# EAGLE library part DS1882Z-050+ (library DS1882Z-050_)
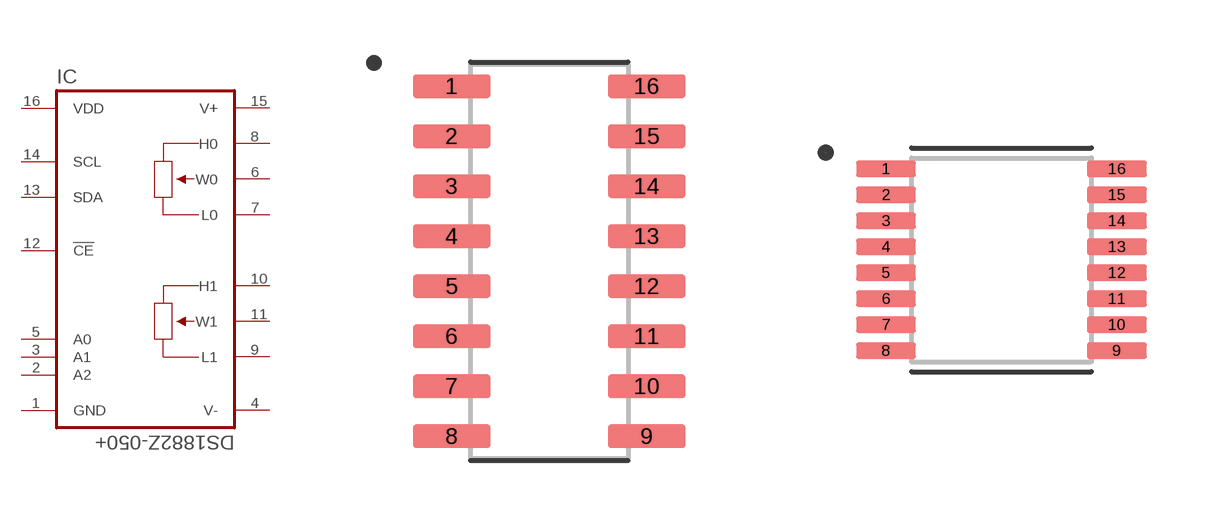
[diagram p0: symbol with the pads of SOIC127P600X175-16N; footprints SOIC127P600X175-16N, SOP65P640X110-16N]

Designator prefix IC

## DS1882Z-050+Z (AVAILABILITY: Unavailable; DESCRIPTION: Integrated circuit: digital potentiometer; 45kΩ; I2C; SO16; SMD; MF: Maxim Integrated; MP: DS1882Z-050+; PACKAGE: SOIC-16 Maxim; PRICE: None)  [SOIC127P600X175-16N]
1  GND  pwr
2  A2
3  A1
4  V-  pwr
5  A0
6  W0
7  L0
8  H0
9  L1
10  H1
11  W1
12  !CE
13  SDA
14  SCL
15  V+  pwr
16  VDD  pwr

## DS1882Z-050+E  [SOP65P640X110-16N]
Pads as for SOIC127P600X175-16N

## Footprint SOIC127P600X175-16N (pad centres in mm)
smd 1.97 x 0.59: 1 -2.475,4.445; 2 -2.475,3.175; 3 -2.475,1.905; 4 -2.475,0.635; 5 -2.475,-0.635; 6 -2.475,-1.905; 7 -2.475,-3.175; 8 -2.475,-4.445; 9 2.475,-4.445; 10 2.475,-3.175; 11 2.475,-1.905; 12 2.475,-0.635; 13 2.475,0.635; 14 2.475,1.905; 15 2.475,3.175; 16 2.475,4.445

## Footprint SOP65P640X110-16N (pad centres in mm)
smd 1.5 x 0.41: 1 -2.885,2.275; 2 -2.885,1.625; 3 -2.885,0.975; 4 -2.885,0.325; 5 -2.885,-0.325; 6 -2.885,-0.975; 7 -2.885,-1.625; 8 -2.885,-2.275; 9 2.885,-2.275; 10 2.885,-1.625; 11 2.885,-0.975; 12 2.885,-0.325; 13 2.885,0.325; 14 2.885,0.975; 15 2.885,1.625; 16 2.885,2.275